# Altium footprint library AT42QT2120-XU.PcbLib: 3 footprints
Each footprint in its own frame and in the unit in brackets; x right, y up, seen from the top. Pads: shape width x height; smd on the part's side, far side on the other; paste and mask are expansions set on the pad; w line width, h text height; cw(c..) or ccw(c..) is an arc to the next point about the centre after c.
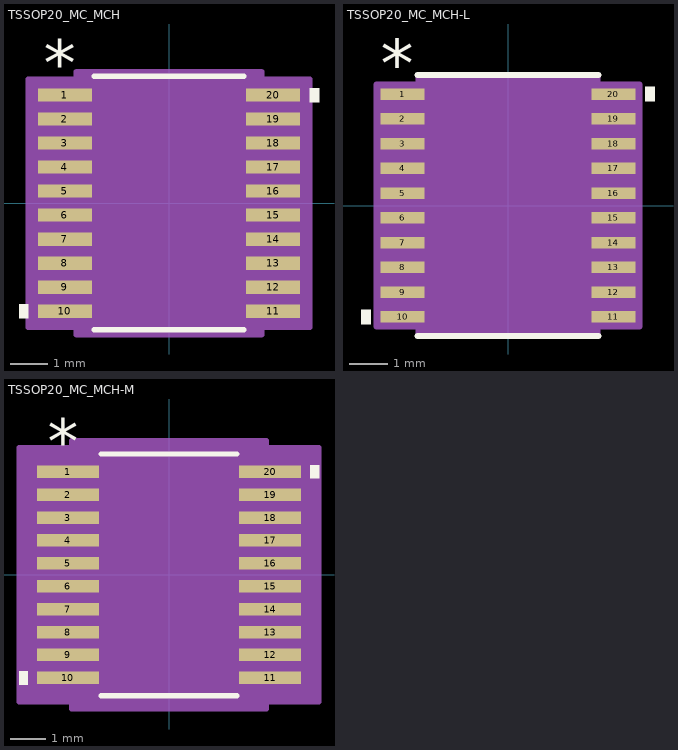
[diagram p0: the footprints below, top view; thin cyan lines are the x and y axes]

## TSSOP20_MC_MCH [mm]
pads (20):
  rect 1.462x0.355 smd paste+0 mask+0: 1(-2.819,2.925) 2(-2.819,2.275) 3(-2.819,1.625) 4(-2.819,0.975) 5(-2.819,0.325) 6(-2.819,-0.325) 7(-2.819,-0.975) 8(-2.819,-1.625) 9(-2.819,-2.275) 10(-2.819,-2.925) 11(2.819,-2.925) 12(2.819,-2.275) 13(2.819,-1.625) 14(2.819,-0.975) 15(2.819,-0.325) 16(2.819,0.325) 17(2.819,0.975) 18(2.819,1.625) 19(2.819,2.275) 20(2.819,2.925)
Top Overlay:
  region: -3.804,-2.734 -4.058,-2.734 -4.058,-3.115 -3.804,-3.115
  region: 3.804,3.115 4.058,3.115 4.058,2.734 3.804,2.734
  lines w0.152: -2.025,-3.429 2.025,-3.429 ; -2.025,3.429 2.025,3.429
  text "*" at -3.391,3.153 h1.27
Mechanical 13:
  lines w0: -0.305,3.302 ccw(c0,3.302) 0.305,3.302
  lines w0.025: -3.2,-3.077 -3.2,-2.773 -2.248,-2.773 -2.248,-3.077 -3.2,-3.077 ; -3.2,-2.427 -3.2,-2.123 -2.248,-2.123 -2.248,-2.427 -3.2,-2.427 ; -3.2,-1.777 -3.2,-1.473 -2.248,-1.473 -2.248,-1.777 -3.2,-1.777 ; -3.2,-1.127 -3.2,-0.823 -2.248,-0.823 -2.248,-1.127 -3.2,-1.127 ; -3.2,-0.477 -3.2,-0.173 -2.248,-0.173 -2.248,-0.477 -3.2,-0.477 ; -3.2,0.173 -3.2,0.477 -2.248,0.477 -2.248,0.173 -3.2,0.173 ; -3.2,0.823 -3.2,1.127 -2.248,1.127 -2.248,0.823 -3.2,0.823 ; -3.2,1.473 -3.2,1.777 -2.248,1.777 -2.248,1.473 -3.2,1.473 ; -3.2,2.123 -3.2,2.427 -2.248,2.427 -2.248,2.123 -3.2,2.123 ; -3.2,2.773 -3.2,3.077 -2.248,3.077 -2.248,2.773 -3.2,2.773 ; -2.248,-3.302 2.248,-3.302 2.248,3.302 -2.248,3.302 -2.248,-3.302 ; 2.248,-3.077 2.248,-2.773 3.2,-2.773 3.2,-3.077 2.248,-3.077 ; 2.248,-2.427 2.248,-2.123 3.2,-2.123 3.2,-2.427 2.248,-2.427 ; 2.248,-1.777 2.248,-1.473 3.2,-1.473 3.2,-1.777 2.248,-1.777 ; 2.248,-1.127 2.248,-0.823 3.2,-0.823 3.2,-1.127 2.248,-1.127 ; 2.248,-0.477 2.248,-0.173 3.2,-0.173 3.2,-0.477 2.248,-0.477 ; 2.248,0.173 2.248,0.477 3.2,0.477 3.2,0.173 2.248,0.173 ; 2.248,0.823 2.248,1.127 3.2,1.127 3.2,0.823 2.248,0.823 ; 2.248,1.473 2.248,1.777 3.2,1.777 3.2,1.473 2.248,1.473 ; 2.248,2.123 2.248,2.427 3.2,2.427 3.2,2.123 2.248,2.123 ; 2.248,2.773 2.248,3.077 3.2,3.077 3.2,2.773 2.248,2.773
  text "*" at -2.184,1.956 h1.27
Mechanical 15:
  region: -2.502,-3.356 -3.804,-3.356 -3.804,3.356 -2.502,3.356 -2.502,3.556 2.502,3.556 2.502,3.356 3.804,3.356 3.804,-3.356 2.502,-3.356 2.502,-3.556 -2.502,-3.556
  lines w0.152: -3.804,-3.356 -3.804,3.356 -2.502,3.356 -2.502,3.556 2.502,3.556 2.502,3.356 3.804,3.356 3.804,-3.356 2.502,-3.356 2.502,-3.556 -2.502,-3.556 -2.502,-3.356 -3.804,-3.356
3D body "TSSOP20_MC_MCH.step": height 1.2, standoff 0, extent -3.2,-3.302 3.2,3.302

## TSSOP20_MC_MCH-L [mm]
pads (20):
  rect 1.162x0.305 smd paste+0 mask+0: 1(-2.769,2.925) 2(-2.769,2.275) 3(-2.769,1.625) 4(-2.769,0.975) 5(-2.769,0.325) 6(-2.769,-0.325) 7(-2.769,-0.975) 8(-2.769,-1.625) 9(-2.769,-2.275) 10(-2.769,-2.925) 11(2.769,-2.925) 12(2.769,-2.275) 13(2.769,-1.625) 14(2.769,-0.975) 15(2.769,-0.325) 16(2.769,0.325) 17(2.769,0.975) 18(2.769,1.625) 19(2.769,2.275) 20(2.769,2.925)
Top Overlay:
  region: -3.604,-2.734 -3.858,-2.734 -3.858,-3.115 -3.604,-3.115
  region: 3.604,3.115 3.858,3.115 3.858,2.734 3.604,2.734
  lines w0.152: -2.375,-3.429 2.375,-3.429 ; -2.375,3.429 2.375,3.429
  text "*" at -3.341,3.103 h1.27
Mechanical 13:
  lines w0: -0.305,3.302 ccw(c0,3.302) 0.305,3.302
  lines w0.025: -3.2,-3.077 -3.2,-2.773 -2.248,-2.773 -2.248,-3.077 -3.2,-3.077 ; -3.2,-2.427 -3.2,-2.123 -2.248,-2.123 -2.248,-2.427 -3.2,-2.427 ; -3.2,-1.777 -3.2,-1.473 -2.248,-1.473 -2.248,-1.777 -3.2,-1.777 ; -3.2,-1.127 -3.2,-0.823 -2.248,-0.823 -2.248,-1.127 -3.2,-1.127 ; -3.2,-0.477 -3.2,-0.173 -2.248,-0.173 -2.248,-0.477 -3.2,-0.477 ; -3.2,0.173 -3.2,0.477 -2.248,0.477 -2.248,0.173 -3.2,0.173 ; -3.2,0.823 -3.2,1.127 -2.248,1.127 -2.248,0.823 -3.2,0.823 ; -3.2,1.473 -3.2,1.777 -2.248,1.777 -2.248,1.473 -3.2,1.473 ; -3.2,2.123 -3.2,2.427 -2.248,2.427 -2.248,2.123 -3.2,2.123 ; -3.2,2.773 -3.2,3.077 -2.248,3.077 -2.248,2.773 -3.2,2.773 ; -2.248,-3.302 2.248,-3.302 2.248,3.302 -2.248,3.302 -2.248,-3.302 ; 2.248,-3.077 2.248,-2.773 3.2,-2.773 3.2,-3.077 2.248,-3.077 ; 2.248,-2.427 2.248,-2.123 3.2,-2.123 3.2,-2.427 2.248,-2.427 ; 2.248,-1.777 2.248,-1.473 3.2,-1.473 3.2,-1.777 2.248,-1.777 ; 2.248,-1.127 2.248,-0.823 3.2,-0.823 3.2,-1.127 2.248,-1.127 ; 2.248,-0.477 2.248,-0.173 3.2,-0.173 3.2,-0.477 2.248,-0.477 ; 2.248,0.173 2.248,0.477 3.2,0.477 3.2,0.173 2.248,0.173 ; 2.248,0.823 2.248,1.127 3.2,1.127 3.2,0.823 2.248,0.823 ; 2.248,1.473 2.248,1.777 3.2,1.777 3.2,1.473 2.248,1.473 ; 2.248,2.123 2.248,2.427 3.2,2.427 3.2,2.123 2.248,2.123 ; 2.248,2.773 2.248,3.077 3.2,3.077 3.2,2.773 2.248,2.773
  text "*" at -2.184,1.956 h1.27
Mechanical 15:
  region: -2.349,-3.179 -3.452,-3.179 -3.452,3.179 -2.349,3.179 -2.349,3.404 2.349,3.404 2.349,3.179 3.452,3.179 3.452,-3.179 2.349,-3.179 2.349,-3.404 -2.349,-3.404
  lines w0.152: -3.452,-3.179 -3.452,3.179 -2.349,3.179 -2.349,3.404 2.349,3.404 2.349,3.179 3.452,3.179 3.452,-3.179 2.349,-3.179 2.349,-3.404 -2.349,-3.404 -2.349,-3.179 -3.452,-3.179
3D body "TSSOP20_MC_MCH.step": height 1.2, standoff 0, extent -3.2,-3.302 3.2,3.302

## TSSOP20_MC_MCH-M [mm]
pads (20):
  rect 1.762x0.355 smd paste+0 mask+0: 1(-2.869,2.925) 2(-2.869,2.275) 3(-2.869,1.625) 4(-2.869,0.975) 5(-2.869,0.325) 6(-2.869,-0.325) 7(-2.869,-0.975) 8(-2.869,-1.625) 9(-2.869,-2.275) 10(-2.869,-2.925) 11(2.869,-2.925) 12(2.869,-2.275) 13(2.869,-1.625) 14(2.869,-0.975) 15(2.869,-0.325) 16(2.869,0.325) 17(2.869,0.975) 18(2.869,1.625) 19(2.869,2.275) 20(2.869,2.925)
Top Overlay:
  region: -4.004,-2.734 -4.258,-2.734 -4.258,-3.115 -4.004,-3.115
  region: 4.004,3.115 4.258,3.115 4.258,2.734 4.004,2.734
  lines w0.152: -1.925,-3.429 1.925,-3.429 ; -1.925,3.429 1.925,3.429
  text "*" at -3.441,3.153 h1.27
Mechanical 13:
  lines w0: -0.305,3.302 ccw(c0,3.302) 0.305,3.302
  lines w0.025: -3.2,-3.077 -3.2,-2.773 -2.248,-2.773 -2.248,-3.077 -3.2,-3.077 ; -3.2,-2.427 -3.2,-2.123 -2.248,-2.123 -2.248,-2.427 -3.2,-2.427 ; -3.2,-1.777 -3.2,-1.473 -2.248,-1.473 -2.248,-1.777 -3.2,-1.777 ; -3.2,-1.127 -3.2,-0.823 -2.248,-0.823 -2.248,-1.127 -3.2,-1.127 ; -3.2,-0.477 -3.2,-0.173 -2.248,-0.173 -2.248,-0.477 -3.2,-0.477 ; -3.2,0.173 -3.2,0.477 -2.248,0.477 -2.248,0.173 -3.2,0.173 ; -3.2,0.823 -3.2,1.127 -2.248,1.127 -2.248,0.823 -3.2,0.823 ; -3.2,1.473 -3.2,1.777 -2.248,1.777 -2.248,1.473 -3.2,1.473 ; -3.2,2.123 -3.2,2.427 -2.248,2.427 -2.248,2.123 -3.2,2.123 ; -3.2,2.773 -3.2,3.077 -2.248,3.077 -2.248,2.773 -3.2,2.773 ; -2.248,-3.302 2.248,-3.302 2.248,3.302 -2.248,3.302 -2.248,-3.302 ; 2.248,-3.077 2.248,-2.773 3.2,-2.773 3.2,-3.077 2.248,-3.077 ; 2.248,-2.427 2.248,-2.123 3.2,-2.123 3.2,-2.427 2.248,-2.427 ; 2.248,-1.777 2.248,-1.473 3.2,-1.473 3.2,-1.777 2.248,-1.777 ; 2.248,-1.127 2.248,-0.823 3.2,-0.823 3.2,-1.127 2.248,-1.127 ; 2.248,-0.477 2.248,-0.173 3.2,-0.173 3.2,-0.477 2.248,-0.477 ; 2.248,0.173 2.248,0.477 3.2,0.477 3.2,0.173 2.248,0.173 ; 2.248,0.823 2.248,1.127 3.2,1.127 3.2,0.823 2.248,0.823 ; 2.248,1.473 2.248,1.777 3.2,1.777 3.2,1.473 2.248,1.473 ; 2.248,2.123 2.248,2.427 3.2,2.427 3.2,2.123 2.248,2.123 ; 2.248,2.773 2.248,3.077 3.2,3.077 3.2,2.773 2.248,2.773
  text "*" at -2.184,1.956 h1.27
Mechanical 15:
  region: -2.756,-3.61 -4.258,-3.61 -4.258,3.61 -2.756,3.61 -2.756,3.81 2.756,3.81 2.756,3.61 4.258,3.61 4.258,-3.61 2.756,-3.61 2.756,-3.81 -2.756,-3.81
  lines w0.152: -4.258,-3.61 -4.258,3.61 -2.756,3.61 -2.756,3.81 2.756,3.81 2.756,3.61 4.258,3.61 4.258,-3.61 2.756,-3.61 2.756,-3.81 -2.756,-3.81 -2.756,-3.61 -4.258,-3.61
3D body "TSSOP20_MC_MCH.step": height 1.2, standoff 0, extent -3.2,-3.302 3.2,3.302